# Altium schematic symbol library CN_JACK_PHONO_4P.SchLib: 1 symbol
Pins are listed as number, name and electrical type; pins without a type are passive.

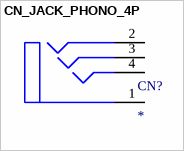
[diagram p0: symbol CN_JACK_PHONO_4P]

## CN_JACK_PHONO_4P
designator CN?
pins: 1, 2, 3, 4